# Altium schematic symbol library capacitor.SchLib: 4 symbols
Pins are listed as number, name and electrical type; pins without a type are passive.

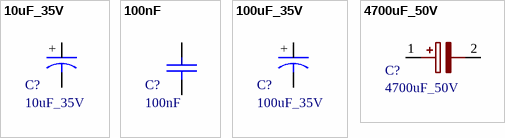
[diagram p0: symbols 10uF_35V to 4700uF_50V]

## 10uF_35V
designator C?
footprint 10uF_35V
pins: +, -

## 100nF
designator C?
footprint 100nF
pins: 1, 2

## 100uF_35V
designator C?
footprint 100uF_35V
pins: +, -

## 4700uF_50V
designator C?
footprint 4700uF_50V
pins: 1 +, 2 -